# Altium footprint library SmarTRC_home.PcbLib: 21 footprints (part 1 of 2)
Each footprint in its own frame and in the unit in brackets; x right, y up, seen from the top. Pads: shape width x height; smd on the part's side, far side on the other; paste and mask are expansions set on the pad; w line width, h text height; cw(c..) or ccw(c..) is an arc to the next point about the centre after c.
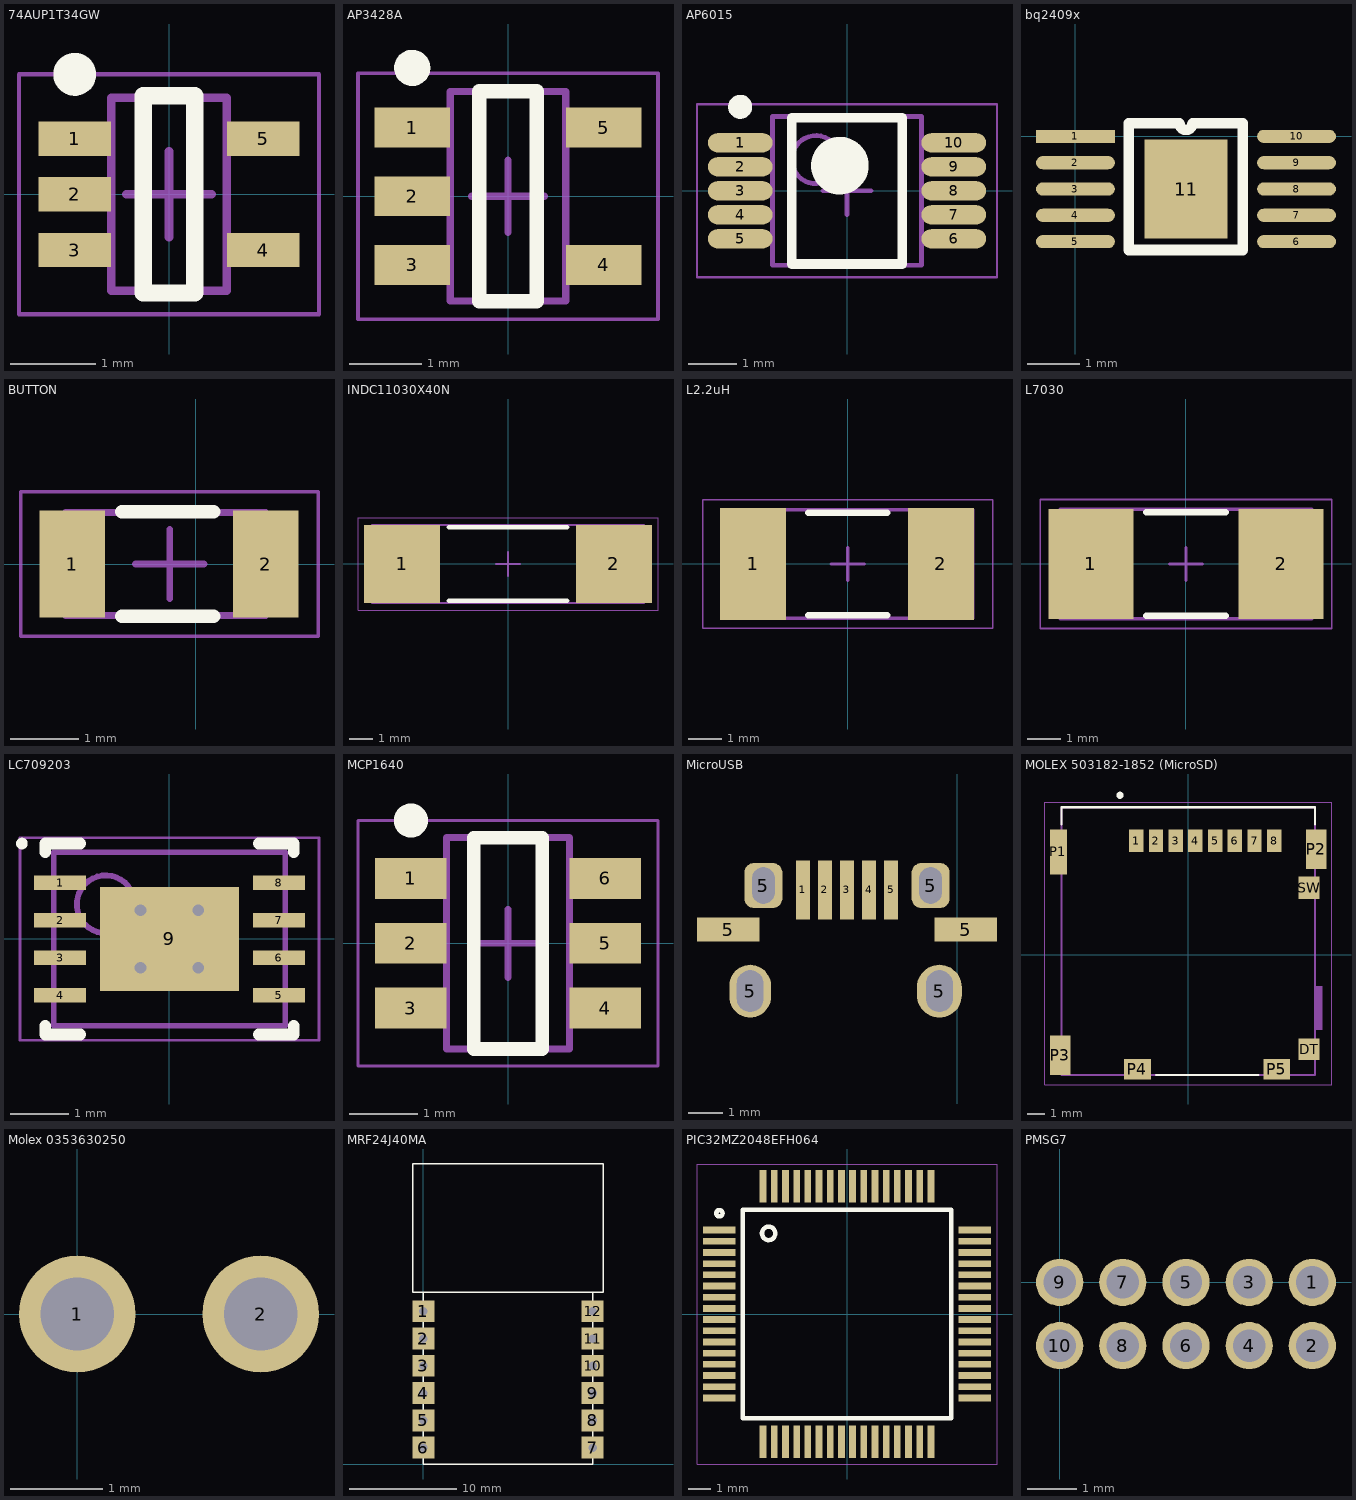
[diagram p0: the footprints below, top view; thin cyan lines are the x and y axes]

## 74AUP1T34GW [mm]
height 1.1
pads (5):
  rect 0.85x0.4 smd: 1(-1.1,0.65) 2(-1.1,0) 3(-1.1,-0.65) 4(1.1,-0.65) 5(1.1,0.65)
Top Overlay:
  circle w0.25: c-1.1,1.4 r0.125
  lines w0.2: -0.3,-1.15 0.3,-1.15 0.3,1.15 -0.3,1.15 -0.3,-1.15
Mechanical 13:
  lines w0.1: -0.675,-1.125 -0.675,1.125 0.675,1.125 0.675,-1.125 -0.675,-1.125
Mechanical 15:
  lines w0.05: -1.75,-1.4 -1.75,1.4 1.75,1.4 1.75,-1.4 -1.75,-1.4
  lines w0.1: -0.5,0 0.5,0 ; 0,-0.5 0,0.5
3D body: height 1.1, standoff 0.1, extent -0.675,-1.125 0.675,1.125

## AP3428A [mm]
height 1
pads (5):
  rect 1.05x0.55 smd: 1(-1.325,0.95) 2(-1.325,0) 3(-1.325,-0.95) 4(1.325,-0.95) 5(1.325,0.95)
Top Overlay:
  circle w0.25: c-1.325,1.775 r0.125
  lines w0.2: -0.4,-1.45 0.4,-1.45 0.4,1.45 -0.4,1.45 -0.4,-1.45
Mechanical 13:
  lines w0.1: -0.8,-1.45 -0.8,1.45 0.8,1.45 0.8,-1.45 -0.8,-1.45
Mechanical 15:
  lines w0.05: -2.075,-1.7 -2.075,1.7 2.075,1.7 2.075,-1.7 -2.075,-1.7
  lines w0.1: -0.5,0 0.5,0 ; 0,-0.5 0,0.5
3D body: height 1, standoff 0.1, extent -0.8,-1.45 0.8,1.45

## AP6015 [mm]
height 1.1
pads (10):
  oval 1.35x0.4 smd: 1(-2.225,1) 2(-2.225,0.5) 3(-2.225,0) 4(-2.225,-0.5) 5(-2.225,-1) 6(2.225,-1) 7(2.225,-0.5) 8(2.225,0) 9(2.225,0.5) 10(2.225,1)
Top Overlay:
  circle w0.6: c-0.15,0.525 r0.3
  circle w0.25: c-2.225,1.75 r0.125
  lines w0.2: -1.15,-1.525 1.15,-1.525 1.15,1.525 -1.15,1.525 -1.15,-1.525
Mechanical 13:
  circle w0.1: c-0.65,0.65 r0.5
  lines w0.1: -1.55,-1.55 1.55,-1.55 1.55,1.55 -1.55,1.55 -1.55,-1.55
Mechanical 15:
  lines w0.05: -3.125,-1.8 3.125,-1.8 3.125,1.8 -3.125,1.8 -3.125,-1.8
  lines w0.1: -0.5,0 0.5,0 ; 0,-0.5 0,0.5
3D body: height 1.1, standoff 0.05, extent -1.55,-1.55 1.55,1.55

## bq2409x [mm]
pads (11):
  rect 1.5x0.25 smd: 1(0,0)
  oval 1.5x0.25 smd: 2(0,-0.5) 3(0,-1) 4(0,-1.5) 5(0,-2) 6(4.2,-2) 7(4.2,-1.5) 8(4.2,-1) 9(4.2,-0.5) 10(4.2,0)
  rect 1.57x1.88 smd: 11(2.1,-1)
Top Overlay:
  lines w0.2: 1.016,-2.159 3.175,-2.159 3.175,0.25 2.225,0.25 cw(c2.1,0.25) 1.975,0.25 1.016,0.25 1.016,-2.159
3D body "DGQ0010D.stp": height 0.86, standoff -0.1, extent -0.43,-2.5 4.495,0.5

## BUTTON [mm]
height 3
pads (2):
  rect 0.95x1.55 smd: 1(-1.8,0) 2(1.016,0)
Top Overlay:
  lines w0.2: -1.077,-0.762 0.254,-0.762 ; -1.077,0.762 0.254,0.762
Mechanical 13:
  lines w0.1: -1.9,-0.75 1.016,-0.75 1.016,0.75 -1.9,0.75 -1.9,-0.75
Mechanical 15:
  lines w0.05: -2.55,-1.05 1.778,-1.05 1.778,1.05 -2.55,1.05 -2.55,-1.05
  lines w0.1: -0.881,0 0.119,0 ; -0.381,-0.5 -0.381,0.5
3D body: height 3, standoff 0, extent -0.55,0 0,0
3D body: height 3, standoff 0, extent 0,0 0.55,0
3D body: height 3, standoff 0, extent -0.55,0 0.55,0
3D body: height 0.7, standoff 0.6, extent -1.157,-0.748 0.337,0.749
3D body: height 5.91, standoff 0.25, extent 0.381,0.635 0.381,0.635
3D body: height 0.6, standoff 0, extent -1.905,-1.016 1.143,1.016

## INDC11030X40N [mm]
height 4
pads (2):
  rect 3.23x3.32 smd: 1(-4.485,0) 2(4.485,0)
Top Overlay:
  lines w0.2: -2.5,-1.56 2.5,-1.56 ; -2.5,1.56 2.5,1.56
Mechanical 13:
  lines w0.1: -5.75,-1.65 -5.75,1.65 5.75,1.65 5.75,-1.65 -5.75,-1.65
Mechanical 15:
  lines w0.05: -6.35,-1.95 -6.35,1.95 6.35,1.95 6.35,-1.95 -6.35,-1.95
  lines w0.1: -0.5,0 0.5,0 ; 0,-0.5 0,0.5
3D body: height 4, standoff 0, extent -2.85,-5.15 2.85,5.15
3D body: height 4, standoff 0, extent -5.15,-5.15 -2.85,5.15
3D body: height 4, standoff 0, extent 2.85,-5.15 5.15,5.15

## L2.2uH [mm]
height 3
pads (2):
  rect 2x3.4 smd: 1(-2.87,0) 2(2.83,0)
Top Overlay:
  lines w0.2: -1.2,-1.56 1.2,-1.56 ; -1.2,1.56 1.2,1.56
Mechanical 13:
  lines w0.1: -3.8,-1.65 3.8,-1.65 3.8,1.65 -3.8,1.65 -3.8,-1.65
Mechanical 15:
  lines w0.05: -4.4,-1.95 4.4,-1.95 4.4,1.95 -4.4,1.95 -4.4,-1.95
  lines w0.1: -0.5,0 0.5,0 ; 0,-0.5 0,0.5
3D body: height 3, standoff 0, extent -3.683,-3.302 3.683,3.302

## L7030 [mm]
height 3
pads (2):
  rect 2.57x3.32 smd: 1(-2.87,0) 2(2.87,0)
Top Overlay:
  lines w0.2: -1.2,-1.56 1.2,-1.56 ; -1.2,1.56 1.2,1.56
Mechanical 13:
  lines w0.1: -3.8,-1.65 -3.8,1.65 3.8,1.65 3.8,-1.65 -3.8,-1.65
Mechanical 15:
  lines w0.05: -4.4,-1.95 -4.4,1.95 4.4,1.95 4.4,-1.95 -4.4,-1.95
  lines w0.1: -0.5,0 0.5,0 ; 0,-0.5 0,0.5
3D body: height 3, standoff 0, extent -1.65,-3.45 1.65,3.45
3D body: height 3, standoff 0, extent -3.45,-3.45 -1.65,3.45
3D body: height 3, standoff 0, extent 1.65,-3.45 3.45,3.45

## LC709203 [mm]
height 0.8
pads (9):
  rect 0.9x0.25 smd: 1(-1.89,0.975) 2(-1.89,0.325) 3(-1.89,-0.325) 4(-1.89,-0.975) 5(1.89,-0.975) 6(1.89,-0.325) 7(1.89,0.325) 8(1.89,0.975)
  rect 2.4x1.8 smd: 9(0,0)
via -0.5,0.5 diameter 0.5 hole 0.2
via 0.5,0.5 diameter 0.5 hole 0.2
via -0.5,-0.5 diameter 0.5 hole 0.2
via 0.5,-0.5 diameter 0.5 hole 0.2
Top Overlay:
  circle w0.1: c-2.55,1.65 r0.05
  lines w0.2: -2.15,-1.5 -2.15,-1.65 -1.54,-1.65 ; -2.15,1.5 -2.15,1.65 -1.54,1.65 ; 1.54,-1.65 2.15,-1.65 2.15,-1.5 ; 1.54,1.65 2.15,1.65 2.15,1.5
Mechanical 13:
  circle w0.1: c-1.1,0.6 r0.5
  lines w0.1: -2,-1.5 -2,1.5 2,1.5 2,-1.5 -2,-1.5
Mechanical 15:
  lines w0.05: -2.585,-1.75 -2.585,1.75 2.585,1.75 2.585,-1.75 -2.585,-1.75
  lines w0.1: -0.5,0 0.5,0 ; 0,-0.5 0,0.5
3D body: height 0.8, standoff 0, extent -2,-1.5 2,1.5

## MCP1640 [mm]
height 1.45
pads (6):
  rect 1.05x0.6 smd: 1(-1.425,0.95) 2(-1.425,0) 3(-1.425,-0.95) 4(1.425,-0.95) 5(1.425,0) 6(1.425,0.95)
Top Overlay:
  circle w0.25: c-1.425,1.8 r0.125
  lines w0.2: -0.5,-1.55 0.5,-1.55 0.5,1.55 -0.5,1.55 -0.5,-1.55
Mechanical 13:
  lines w0.1: -0.9,-1.55 -0.9,1.55 0.9,1.55 0.9,-1.55 -0.9,-1.55
Mechanical 15:
  lines w0.05: -2.2,-1.8 -2.2,1.8 2.2,1.8 2.2,-1.8 -2.2,-1.8
  lines w0.1: -0.5,0 0.5,0 ; 0,-0.5 0,0.5
3D body: height 1.45, standoff 0, extent -0.9,-1.55 0.9,1.55

## MicroUSB [mm]
pads (11):
  rect 0.4x1.7 smd: 1(-4.445,-7.366) 2(-3.81,-7.366) 3(-3.175,-7.366) 4(-2.54,-7.366) 5(-1.905,-7.366)
  rect 1.8x0.7 smd: 5(-6.604,-8.509) 5(0.254,-8.509)
  rrect100% 1.2x1.524 hole 0.762 slot 1.2 at 90 deg: 5(-5.969,-10.287)
  rrect50% 1.1x1.3 hole 0.65 slot 1.05 at 90 deg: 5(-5.588,-7.239) 5(-0.762,-7.239)
  rrect100% 1.3x1.524 hole 0.762 slot 1.2 at 90 deg: 5(-0.508,-10.287)
3D body "10103594.stp": height 2.8, standoff -0.8, extent -7.22,-13.116 0.82,-7.084

## MOLEX 503182-1852 (MicroSD) [mm]
pads (15):
  rect 0.8x1.24 smd: 1(-2.9,6.355) 2(-1.8,6.355) 3(-0.7,6.355) 4(0.4,6.355) 5(1.5,6.355) 6(2.6,6.355) 7(3.7,6.355) 8(4.8,6.355)
  rect 1.16x1.2 smd: DT(6.74,-5.275)
  rect 0.95x2.5 smd: P1(-7.245,5.725)
  rect 1.15x2.2 smd: P2(7.145,5.875) P3(-7.145,-5.605)
  rect 1.5x1.15 smd: P4(-2.84,-6.4) P5(4.94,-6.4)
  rect 1.16x1.25 smd: SW(6.74,3.725)
Top Overlay:
  circle w0.2: c-3.81,8.89 r0.1
  lines w0.127: -7.07,7.28 -7.07,8.225 7.07,8.225 7.07,7.28 ; -1.8,-6.725 3.9,-6.725
Mechanical 4:
  lines w0.127: -7.07,-6.725 -7.07,8.225 ; -7.07,-6.725 7.07,-6.725 ; -7.07,-6.725 -7.07,8.225 ; -7.07,-6.725 7.07,-6.725 ; -7.07,8.225 7.07,8.225 ; -7.07,8.225 7.07,8.225 ; 7.07,-6.725 7.07,8.225 ; 7.07,-6.725 7.07,8.225
Mechanical 16:
  region: 7.085,-1.775 7.47,-1.775 7.47,-4.184 7.085,-4.184
  lines w0.05: -8,-7.25 -8,8.5 8,8.5 8,-7.25 -8,-7.25
3D body "5031821852--3DModel-STEP-56544.STEP": height 1.4, standoff -0.07, extent -7.366,-6.713 7.574,8.237

## Molex 0353630250 [mm]
pads (2):
  round 1.27 hole 0.8: 1(0,0) 2(2,0)
3D body "353630250.stp": height 5.75, standoff -2.95, extent -2.834,-1.905 4.866,8.595

## MRF24J40MA [mil]
pads (12):
  rect 80x80 hole 31.5: 1(0,560) 2(0,460) 3(0,360) 4(0,260) 5(0,160) 6(0,60) 7(620,60) 8(620,160) 9(620,260) 10(620,360) 11(620,460) 12(620,560)
Top Overlay:
  lines w5: 0,630 -40,630 -40,1100 660,1100 660,630 620,630 ; 0,630 0,0 620,0 620,630 ; 0,630 620,630
Mechanical 4:
  text "1" at 80.03,540.39 h73.82
  text "MRF24J40MA" at 100.1,-109.95 h73.82
  text "1" at 80.03,540.39 h73.82
  text "MRF24J40MA" at 100.1,-109.95 h73.82
3D body "User Library-MRF24J40MA-2-1.STEP": height 81.81, standoff 0.46, extent -40,-5 660,1095

## PIC32MZ2048EFH064 [mm]
pads (64):
  rect 1.45x0.3 smd: 1(-5.7,3.75) 2(-5.7,3.25) 3(-5.7,2.75) 4(-5.7,2.25) 5(-5.7,1.75) 6(-5.7,1.25) 7(-5.7,0.75) 8(-5.7,0.25) 9(-5.7,-0.25) 10(-5.7,-0.75) 11(-5.7,-1.25) 12(-5.7,-1.75) 13(-5.7,-2.25) 14(-5.7,-2.75) 15(-5.7,-3.25) 16(-5.7,-3.75) 33(5.7,-3.75) 34(5.7,-3.25) 35(5.7,-2.75) 36(5.7,-2.25) 37(5.7,-1.75) 38(5.7,-1.25) 39(5.7,-0.75) 40(5.7,-0.25) 41(5.7,0.25) 42(5.7,0.75) 43(5.7,1.25) 44(5.7,1.75) 45(5.7,2.25) 46(5.7,2.75) 47(5.7,3.25) 48(5.7,3.75)
  rect 0.3x1.45 smd: 17(-3.75,-5.7) 18(-3.25,-5.7) 19(-2.75,-5.7) 20(-2.25,-5.7) 21(-1.75,-5.7) 22(-1.25,-5.7) 23(-0.75,-5.7) 24(-0.25,-5.7) 25(0.25,-5.7) 26(0.75,-5.7) 27(1.25,-5.7) 28(1.75,-5.7) 29(2.25,-5.7) 30(2.75,-5.7) 31(3.25,-5.7) 32(3.75,-5.7) 49(3.75,5.7) 50(3.25,5.7) 51(2.75,5.7) 52(2.25,5.7) 53(1.75,5.7) 54(1.25,5.7) 55(0.75,5.7) 56(0.25,5.7) 57(-0.25,5.7) 58(-0.75,5.7) 59(-1.25,5.7) 60(-1.75,5.7) 61(-2.25,5.7) 62(-2.75,5.7) 63(-3.25,5.7) 64(-3.75,5.7)
Top Overlay:
  circle w0.2: c-3.5,3.6 r0.3
  circle w0.2: c-5.7,4.5 r0.141
  circle w0.05: c-3.5,3.6 r0.224
  lines w0.2: -4.65,-4.65 -4.65,4.65 4.65,4.65 4.65,-4.65 -4.65,-4.65
Mechanical 15:
  lines w0.05: -6.7,-6.7 -6.7,6.7 6.7,6.7 6.7,-6.7 -6.7,-6.7
3D body "PT--3DModel-STEP-56544.STEP": height 1.12, standoff -0.08, extent -6,-6 6,6

## PMSG7 [mm]
pads (10):
  round 0.95 / inner round 2.032 / far side round 0.95 hole 0.65: 1(5.08,0) 2(5.08,-1.27) 3(3.81,0) 4(3.81,-1.27) 5(2.54,0) 6(2.54,-1.27) 7(1.27,0) 8(1.27,-1.27) 9(0,0) 10(0,-1.27)
3D body "20021311-00010T4LF.stp": height 4.2, standoff -2.6, extent -0.841,-2.111 5.969,0.889